# EAGLE library part XBEE (library RocketControlBoard)
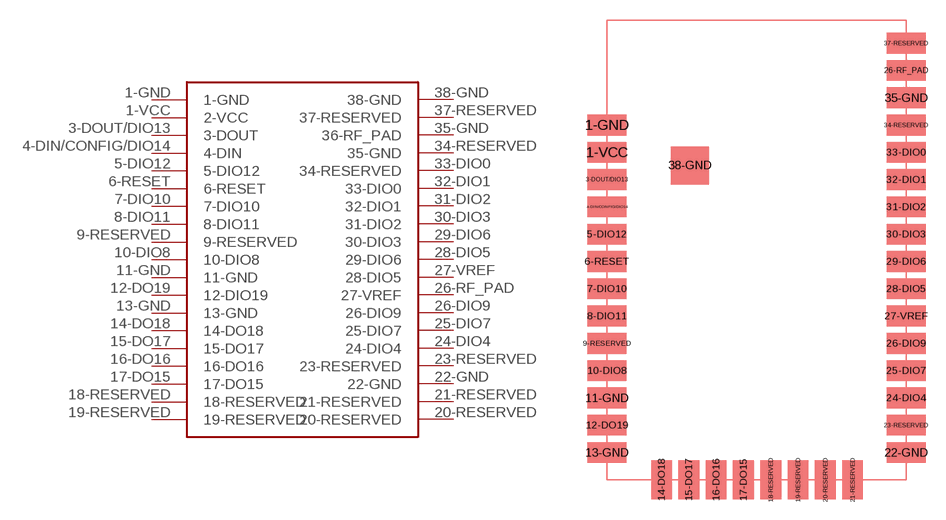
[diagram p6: symbol with the pads of XBEE; footprint XBEE]

Designator prefix -

## XBEE  [XBEE]
1-GND  1-GND
1-VCC  2-VCC
3-DOUT/DIO13  3-DOUT
4-DIN/CONFIG/DIO14  4-DIN
5-DIO12  5-DIO12
6-RESET  6-RESET
7-DIO10  7-DIO10
8-DIO11  8-DIO11
9-RESERVED  9-RESERVED
10-DIO8  10-DIO8
11-GND  11-GND
12-DO19  12-DIO19
13-GND  13-GND
14-DO18  14-DO18
15-DO17  15-DO17
16-DO16  16-DO16
17-DO15  17-DO15
18-RESERVED  18-RESERVED
19-RESERVED  19-RESERVED
20-RESERVED  20-RESERVED
21-RESERVED  21-RESERVED
22-GND  22-GND
23-RESERVED  23-RESERVED
24-DIO4  24-DIO4
25-DIO7  25-DIO7
26-DIO9  26-DIO9
26-RF_PAD  27-VREF
27-VREF  28-DIO5
28-DIO5  29-DIO6
29-DIO6  30-DIO3
30-DIO3  31-DIO2
31-DIO2  32-DIO1
32-DIO1  33-DIO0
33-DIO0  34-RESERVED
34-RESERVED  35-GND
35-GND  36-RF_PAD
37-RESERVED  37-RESERVED
38-GND  38-GND

## Footprint XBEE (pad centres in mm)
smd 2.845 x 1.524: 1-GND -21.996,-6.02; 1-VCC -21.996,-8.026; 3-DOUT/DIO13 -21.996,-10.033; 4-DIN/CONFIG/DIO14 -21.996,-12.04; 5-DIO12 -21.996,-14.046; 6-RESET -21.996,-16.053; 7-DIO10 -21.996,-18.059; 8-DIO11 -21.996,-20.066; 9-RESERVED -21.996,-22.073; 10-DIO8 -21.996,-24.079; 11-GND -21.996,-26.086; 12-DO19 -21.996,-28.092; 13-GND -21.996,-30.099; 22-GND 0,-30.099; 23-RESERVED 0,-28.092; 24-DIO4 0,-26.086; 25-DIO7 0,-24.079; 26-DIO9 0,-22.073; 26-RF_PAD 0,-2.007; 27-VREF 0,-20.066; 28-DIO5 0,-18.059; 29-DIO6 0,-16.053; 30-DIO3 0,-14.046; 31-DIO2 0,-12.04; 32-DIO1 0,-10.033; 33-DIO0 0,-8.026; 34-RESERVED 0,-6.02; 35-GND 0,-4.013; 37-RESERVED 0,0
smd 1.524 x 2.845: 14-DO18 -17.983,-32.106; 15-DO17 -15.977,-32.106; 16-DO16 -13.97,-32.106; 17-DO15 -11.963,-32.106; 18-RESERVED -9.957,-32.106; 19-RESERVED -7.95,-32.106; 20-RESERVED -5.944,-32.106; 21-RESERVED -3.937,-32.106
smd 2.794 x 2.794: 38-GND -15.9,-8.992